# Altium schematic symbol library HK_SCHLIB.SchLib: 347 symbols (part 3 of 8)
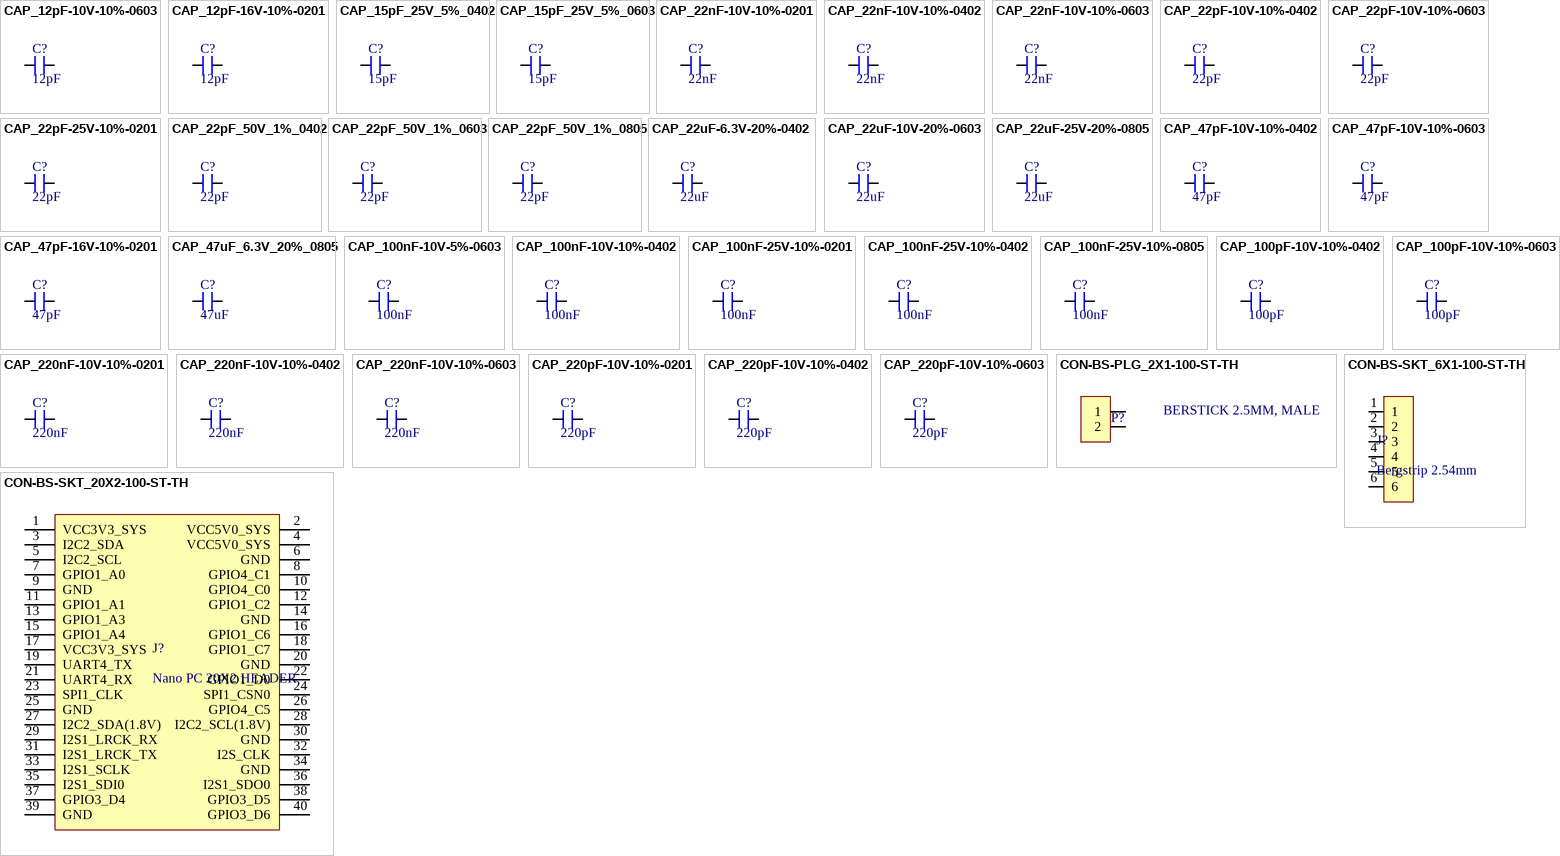
[diagram p17: symbols CAP_12pF-10V-10%-0603 to CON-BS-SKT_20X2-100-ST-TH]

## CAP_22nF-10V-10%-0201
designator C?, comment 22nF
0201 22000 pF 10 V ±10% Tolerance Multilayer Ceramic Chip Capacitor; Manufacturer: Yageo; Manufacturer Part Number: CC0201KRX5R6BB223; Case/Package: 0201; Supplier-1: Digikey; Supplier 1: Digi-Key; Manufacturer 1: Yageo; Manufacturer Part Number 1: CC0201KRX5R6BB223; RoHS: Yes; Category: Ceramic Capacitors; Stock 1: 313293; Pricing 1: 1=0.1, 10=0.022, 50=0.0122, 100=0.0099, 500=0.00708, 1000=0.00556, 2500=0.00505, 5000=0.00465 (USD); ComponentLink1URL: https://datasheet.octopart.com/CC0201KRX5R6BB223-Yageo-datasheet-140260304.pdf?src-supplier=Newark; ComponentLink1Description: https://datasheet.octopart.com/CC0201KRX5R6BB223-Yageo-datasheet-140260304.pdf?src-supplier=Newark; ComponentLink2URL: https://www.yageo.com/upload/media/product/productsearch/datasheet/mlcc/UPY-GPHC_X5R_4V-to-50V_26.pdf?src-supplier=Digi-Key; ComponentLink2Description: https://www.yageo.com/upload/media/product/productsearch/datasheet/mlcc/UPY-GPHC_X5R_4V-to-50V_26.pdf?src-supplier=Digi-Key; ComponentLink3URL: http://www.yageo.com/exep/pages/download/literatures/ProductSelectionGuide%202014_Final_2.pdf?src-supplier=Digi-Key; ComponentLink3Description: http://www.yageo.com/exep/pages/download/literatures/ProductSelectionGuide%202014_Final_2.pdf?src-supplier=Digi-Key; ComponentLink4URL: https://datasheet.octopart.com/CC0201KRX5R6BB223-Yageo-datasheet-137875056.pdf?src-supplier=Future+Electronics; ComponentLink4Description: https://datasheet.octopart.com/CC0201KRX5R6BB223-Yageo-datasheet-137875056.pdf?src-supplier=Future+Electronics; Supplier Part Number 1: 311-3687-1-ND
footprint CAP_0201
pins: 1, 2

## CAP_22nF-10V-10%-0402
designator C?, comment 22nF
Multilayer Ceramic Capacitor, 0.022 uF, 10 V, ± 10%, X7R, 0402 [1005 Metric]; Manufacturer: Samsung Electro-Mechanics; Manufacturer Part Number: CL05B223KP5NNNC; Manufacturer 1: Samsung; Voltage Rating: 10V; Case/Package: 0402; Supplier-1: Digikey; Supplier 1: Digi-Key; Manufacturer Part Number 1: CL05B223KP5NNNC; RoHS: Yes; Category: Ceramic Capacitors; Stock 1: 770000; Pricing 1: 1=0.1, 10=0.015, 50=0.0082, 100=0.0067, 500=0.00478, 1000=0.00375, 2500=0.00341, 5000=0.00314 (USD); Mount: Surface Mount; Case Code (Metric): 1005; Case Code (Imperial): 0402; Min Operating Temperature: -55°C; Max Operating Temperature: 125°C; Package Quantity: 1; Packaging: Tape and Reel; Capacitance: 22nF; Tolerance: 10%; Dielectric: X7R; Voltage Rating (DC): 10V; Series: CL; Construction: Flat; Length: 0.039inch; Width: 0.02inch; Height: 0.5mm; Thickness: 0.022inch; Depth: 0.5mm; Radiation Hardening: No; RoHS Compliant: Yes; Lead Free: Lead Free; ComponentLink1URL: https://datasheet.ciiva.com/25743/cl05b223kp5nnnc-25743971.pdf?src-supplier=Digi-Key; ComponentLink1Description: https://datasheet.ciiva.com/25743/cl05b223kp5nnnc-25743971.pdf?src-supplier=Digi-Key; Supplier Part Number 1: 1276-1538-1-ND
footprint CAP_0402 (Capacitor)
pins: 1, 2

## CAP_22nF-10V-10%-0603
designator C?, comment 22nF
Multilayer Ceramic Capacitor 0.022uF 10V 10% 0603 Paper T/R; Manufacturer: Taiyo Yuden; Manufacturer Part Number: LMF107B7223KAHT; Case/Package: 0603; Supplier-1: Digikey; Supplier 1: Digi-Key; Manufacturer 1: Taiyo Yuden; Manufacturer Part Number 1: LMF107B7223KAHT; RoHS: Yes; Category: Ceramic Capacitors; Stock 1: 481; Pricing 1: 1=0.19, 10=0.132, 50=0.0748, 100=0.0619, 500=0.04344, 1000=0.03596 (USD); Supplier Part Number 1: 587-6550-1-ND
footprint CAP_0603 (Capacitor)
pins: 1, 2

## CAP_22pF-10V-10%-0402
designator C?, comment 22pF
Capacitor, Ceramic, 22pF, 10VDC, 10-% Tol, 10+% Tol, C0G-TC Code, -30, 30ppm-TC RoHS Compliant: Yes; Manufacturer: KEMET; Manufacturer Part Number: C0402C220K8GACTU; Tolerance: 10%; Voltage Rating: 10V; Dielectric: C0G; Dissipation Factor: 0.1%; Case/Package: 0402; Supplier-1: Digikey; Supplier 1: Mouser; Manufacturer 1: KEMET; Manufacturer Part Number 1: C0402C220K8GACTU; RoHS: Yes; Category: Ceramic Capacitors; Stock 1: 11467; Pricing 1: 1=0.31, 10=0.151, 50=0.151, 100=0.097, 1000=0.082, 10000=0.07 (USD); Mount: Surface Mount; Case Code (Imperial): 0402; Case Code (Metric): 1005; Dielectric Material: Ceramic; Min Operating Temperature: -55°C; Max Operating Temperature: 125°C; Capacitance: 22pF; Package Quantity: 10000; Voltage Rating (DC): 10V; Packaging: Tape and Reel; Termination: SMD/SMT; Series: SMD Comm C0G; Length: 1mm; Width: 0.5mm; Height: 0.5mm; Lead Pitch: 0.3mm; Depth: 0.5mm; Radiation Hardening: No; Lead Free: Lead Free; RoHS Compliant: Yes; ComponentLink1URL: https://datasheet.ciiva.com/5435/kem-c1003-c0g-smd-356956-5435110.pdf?src-supplier=Mouser; ComponentLink1Description: https://datasheet.ciiva.com/5435/kem-c1003-c0g-smd-356956-5435110.pdf?src-supplier=Mouser; ComponentLink2URL: https://datasheet.ciiva.com/18192/getdatasheetpartid-644741-18192460.pdf?src-supplier=Verical; ComponentLink2Description: https://datasheet.ciiva.com/18192/getdatasheetpartid-644741-18192460.pdf?src-supplier=Verical; Supplier Part Number 1: 80-C0402C220K8G
footprint CAP_0402 (Capacitor)
pins: 1, 2

## CAP_22pF-10V-10%-0603
designator C?, comment 22pF
22pF ±10% 10V Ceramic Capacitor X8R 0603 (1608 Metric) /; Manufacturer: KEMET; Manufacturer Part Number: C0603X220K8HAC7867; Case/Package: 0603; Supplier-1: Digikey; Supplier 1: Digi-Key; Manufacturer 1: KEMET; Manufacturer Part Number 1: C0603X220K8HAC7867; RoHS: No; Category: Ceramic Capacitors; Pricing 1: 24000=0.00894 (USD); Supplier Part Number 1: C0603X220K8HAC7867-ND
footprint CAP_0603 (Capacitor)
pins: 1, 2

## CAP_22pF-25V-10%-0201
designator C?, comment 22pF
Cap Ceramic 22pF 25V C0G 10% SMD 0201 125C Paper T/R; Manufacturer: Johanson Technology Inc.; Manufacturer Part Number: 250R05L220KV4T; Manufacturer 1: Johanson; Case/Package: 0201; Supplier-1: Digikey; Supplier 1: Mouser; Manufacturer Part Number 1: 250R05L220KV4T; RoHS: Yes; Category: Ceramic Capacitors; Pricing 1: 1=0.11, 10=0.081, 50=0.081, 100=0.037, 1000=0.021, 10000=0.015 (USD); Mount: Surface Mount; Case Code (Imperial): 0201; Case Code (Metric): 0603; Weight: 6E-06oz; Min Operating Temperature: -55°C; Max Operating Temperature: 125°C; Voltage Rating: 25V; Capacitance: 22pF; Voltage Rating (DC): 25V; Tolerance: 10%; Packaging: Tape and Reel; Package Quantity: 15000; Dielectric: C0G; Termination: SMD/SMT; Series: L; Length: 0.6mm; Width: 0.3mm; Height: 0.3mm; Depth: 0.3mm; RoHS Compliant: Yes; ComponentLink1URL: http://www.mouser.com/ds/2/611/JTI-CAT-MLCC-HighQ-516212.pdf?src-supplier=Mouser; ComponentLink1Description: http://www.mouser.com/ds/2/611/JTI-CAT-MLCC-HighQ-516212.pdf?src-supplier=Mouser; ComponentLink2URL: https://www.johansontechnology.com/downloads/JTI-CAT-MLCC-HighQ.pdf?src-supplier=Digi-Key; ComponentLink2Description: https://www.johansontechnology.com/downloads/JTI-CAT-MLCC-HighQ.pdf?src-supplier=Digi-Key; ComponentLink3URL: http://components.arrow.com/part/dataview/43745096S9156427N2069?src-supplier=Arrow+Electronics; ComponentLink3Description: http://components.arrow.com/part/dataview/43745096S9156427N2069?src-supplier=Arrow+Electronics; Supplier Part Number 1: 609-250R05L220KV4T
footprint CAP_0201
pins: 1, 2

## CAP_22pF_50V_1%_0402
designator C?, comment 22pF
Ceramic Multilayer Mlcc Capacitors- SMD; Manufacturer: KEMET; Manufacturer Part Number: C0402C220F5HACAUTO; Tolerance: 1%; Voltage Rating: 50V; Supplier 1: Mouser; RoHS: Yes; Category: Ceramic Capacitors; Stock 1: 14866; Pricing 1: 1=0.19, 10=0.079, 50=0.079, 100=0.046, 1000=0.041, 10000=0.031 (USD); Mount: Surface Mount; Case/Package: 0402; Min Operating Temperature: -55°C; Max Operating Temperature: 150°C; Features: High Temperature; Series: SMD Auto X8R HT150C; Packaging: Tape and Reel; Capacitance: 22pF; Ratings: AEC-Q200; RoHS Compliant: Yes; Supplier 2: Digi-Key; Manufacturer 2: KEMET; Manufacturer Part Number 2: C0402C220F5HACAUTO; Stock 2: 47705; Pricing 2: 1=0.18, 10=0.125, 50=0.0748, 100=0.0631, 500=0.04318, 1000=0.0382, 2500=0.03654, 5000=0.03322 (USD); Supplier Part Number 2: 399-C0402C220F5HACAUTOCT-ND
footprint CAP_0402
pins: 1, 2

## CAP_22pF_50V_1%_0603
designator C?, comment 22pF
Cap, AEC-Q200, 22PF, 50V, Mlcc, 0603;; Manufacturer: KEMET; Manufacturer Part Number: C0603C220F5GACAUTO; Tolerance: 1%; Dielectric: C0G; Supplier 1: Mouser; RoHS: Yes; Category: Ceramic Capacitors; Stock 1: 6441; Pricing 1: 1=0.36, 10=0.245, 50=0.245, 100=0.147, 1000=0.093, 10000=0.075 (USD); Case/Package: 0603; Min Operating Temperature: -55°C; Max Operating Temperature: 125°C; Capacitance: 22pF; Packaging: Bulk; Length: 1.6mm; Depth: 0.8mm; RoHS Compliant: Yes; Supplier 2: Mouser; Manufacturer 2: KEMET; Manufacturer Part Number 2: C0603C220F5GACAUTO; Stock 2: 6441; Pricing 2: 1=0.36, 10=0.245, 50=0.245, 100=0.147, 1000=0.093, 10000=0.075 (USD); Supplier Part Number 2: 80-C0603C220F5GAUTO
footprint CAP_0603 (Chip Capacitor 0603, 2-Leads, Body 1.68x0.88mm, IPC Medium Density)
pins: 1, 2

## CAP_22pF_50V_1%_0805
designator C?, comment 22pF
Multilayer Ceramic Capacitor, 22 pF, 50 V, ± 1%, C0G (NP0), 0805 [2012 Metric]; Manufacturer: KEMET; Manufacturer Part Number: C0805C220F5GACTU; Supplier 1: Mouser; RoHS: Yes; Category: Ceramic Capacitors; Stock 1: 8817; Pricing 1: 1=0.79, 10=0.495, 50=0.495, 100=0.409, 1000=0.278, 10000=0.24 (USD); ComponentLink1URL: https://datasheet.ciiva.com/11650/kem-c1003-c0g-smd-11650462.pdf?src-supplier=Avnet; ComponentLink1Description: https://datasheet.ciiva.com/11650/kem-c1003-c0g-smd-11650462.pdf?src-supplier=Avnet; Supplier 2: Mouser; Manufacturer 2: KEMET; Manufacturer Part Number 2: C0805C220F5GACTU; Stock 2: 7310; Pricing 2: 1=0.79, 10=0.495, 50=0.495, 100=0.409, 1000=0.278, 10000=0.24 (USD); Supplier Part Number 2: 80-C0805C220F5G
footprint CAP_0805 (Chip Capacitor, 2-Leads, Body 2.10x1.35mm, IPC Medium Density)
pins: 1, 2

## CAP_22uF-6.3V-20%-0402
designator C?, comment 22uF
Multilayer Ceramic Capacitor, 22 uF, 6.3 V, ± 20%, X5R, 0402 [1005 Metric]; Manufacturer: Murata Electronics; Manufacturer Part Number: CL05A226MQ5N6J8; Manufacturer 1: Samsung; Voltage Rating: 6.3V; Case/Package: 0402; Supplier-1: Digikey; Supplier 1: Digi-Key; Manufacturer Part Number 1: CL05A226MQ5N6J8; RoHS: Yes; Category: Ceramic Capacitors; Stock 1: 115539; Pricing 1: 1=0.49, 10=0.342, 50=0.2394, 100=0.2053, 500=0.15394, 1000=0.12999, 2500=0.12315 (USD); Mount: Surface Mount; Case Code (Imperial): 0402; Case Code (Metric): 1005; Min Operating Temperature: -55°C; Max Operating Temperature: 85°C; Packaging: Cut Tape; Capacitance: 22uF; Tolerance: 20%; Series: CL; RoHS Compliant: Yes; ComponentLink1URL: https://datasheet.octopart.com/CL05A226MQ5N6J8-Samsung-Electro-Mechanics-datasheet-149154065.pdf?src-supplier=Future+Electronics; ComponentLink1Description: https://datasheet.octopart.com/CL05A226MQ5N6J8-Samsung-Electro-Mechanics-datasheet-149154065.pdf?src-supplier=Future+Electronics; ComponentLink2URL: http://www.samsungsem.com/kr/support/library/product-catalog/mlcc.jsp?src-supplier=Digi-Key; ComponentLink2Description: http://www.samsungsem.com/kr/support/library/product-catalog/mlcc.jsp?src-supplier=Digi-Key; Supplier Part Number 1: 1276-7090-1-ND
footprint CAP_0402 (Capacitor)
pins: 1, 2

## CAP_22uF-10V-20%-0603
designator C?, comment 22uF
Multilayer Ceramic Capacitor, 22 uF, 10 V, ± 20%, X5R, 0603 [1608 Metric]; Manufacturer: Murata Electronics; Manufacturer Part Number: GRM188R61A226ME15D; Manufacturer 1: Murata; Voltage Rating: 10V; Case/Package: 0603; Supplier-1: Digikey; Supplier 1: Digi-Key; Manufacturer Part Number 1: GRM188R61A226ME15D; RoHS: Yes; Category: Ceramic Capacitors; Stock 1: 745970; Pricing 1: 1=0.2, 10=0.133, 50=0.0798, 100=0.0674, 500=0.04614, 1000=0.04081 (USD); Mount: Surface Mount; Case Code (Metric): 1608; Case Code (Imperial): 0603; Material: Ceramic; Weight: 0.000222oz; Min Operating Temperature: -55°C; Max Operating Temperature: 85°C; Capacitance: 22uF; Tolerance: 20%; Packaging: Cut Tape; Dielectric: X5R; Termination: SMD/SMT; Voltage Rating (DC): 10V; Package Quantity: 4000; Series: GRM; Length: 1.6mm; Width: 0.8mm; Height: 0.8mm; Thickness: 0.039inch; Reach SVHC Compliant: No; Lead Free: Lead Free; RoHS Compliant: Yes; ComponentLink1URL: https://datasheet.ciiva.com/46444/1769893-46444975.pdf?src-supplier=Element14; ComponentLink1Description: https://datasheet.ciiva.com/46444/1769893-46444975.pdf?src-supplier=Element14; Supplier Part Number 1: 490-10476-1-ND
footprint CAP_0603 (Capacitor)
pins: 1, 2

## CAP_22uF-25V-20%-0805
designator C?, comment 22uF
0805 25 V 22 uF ±20% Tolerance X5R Monolithic Ceramic Chip Capacitor; Manufacturer: Murata Electronics; Manufacturer Part Number: GRM21BR61E226ME44K; Manufacturer 1: Murata; Voltage Rating: 25V; Case/Package: 0805; Supplier-1: Digikey; Supplier 1: Digi-Key; Manufacturer Part Number 1: GRM21BR61E226ME44K; RoHS: Yes; Category: Ceramic Capacitors; Stock 1: 809289; Pricing 1: 1=0.3, 10=0.205, 50=0.1436, 100=0.1231, 500=0.09234, 1000=0.07798, 2500=0.07387, 5000=0.06977 (USD); Mount: Surface Mount; Case Code (Imperial): 0805; Case Code (Metric): 2012; Weight: 0.000335oz; Min Operating Temperature: -55°C; Max Operating Temperature: 85°C; Packaging: Tape and Reel; Capacitance: 22uF; Tolerance: 20%; Dielectric: X5R; Termination: SMD/SMT; Voltage Rating (DC): 25V; Package Quantity: 10000; Series: GRM; Length: 0.079inch; Width: 1.25mm; Height: 1.25mm; Thickness: 0.057inch; RoHS Compliant: Yes; ComponentLink1URL: http://www.mouser.com/ds/2/281/c02e-2905.pdf?src-supplier=Mouser; ComponentLink1Description: http://www.mouser.com/ds/2/281/c02e-2905.pdf?src-supplier=Mouser; ComponentLink2URL: http://search.murata.co.jp/Ceramy/image/img/A01X/G101/ENG/GRM21BR61E226ME44-01.pdf?src-supplier=Digi-Key; ComponentLink2Description: http://search.murata.co.jp/Ceramy/image/img/A01X/G101/ENG/GRM21BR61E226ME44-01.pdf?src-supplier=Digi-Key; ComponentLink3URL: https://search.murata.co.jp/Ceramy/image/img/A01X/G101/ENG/GRM21BR61E226ME44-01.pdf?src-supplier=Digi-Key; ComponentLink3Description: https://search.murata.co.jp/Ceramy/image/img/A01X/G101/ENG/GRM21BR61E226ME44-01.pdf?src-supplier=Digi-Key; Supplier Part Number 1: 490-14661-1-ND
footprint CAP_0805 (Ceramic Capacitor)
pins: 1, 2

## CAP_47pF-10V-10%-0402
designator C?, comment 47pF
Cap Ceramic 47pF 10V C0G 10% SMD 0402 125°C Paper T/R; Manufacturer: KEMET; Manufacturer Part Number: C0402C470K8GAC7867; Case/Package: 0402; Supplier-1: Supplier-1; Supplier 1: Digi-Key; Manufacturer 1: KEMET; Manufacturer Part Number 1: C0402C470K8GAC7867; RoHS: Yes; Category: Ceramic Capacitors; Stock 1: 14294; Pricing 1: 1=0.29, 10=0.204, 50=0.1428, 100=0.1224, 500=0.0918, 1000=0.07752, 2500=0.07344, 5000=0.06936 (USD); ComponentLink1URL: http://capacitoredge.kemet.com/capedge2/DataSheet?pn=C0402C470K8GACTU&src-supplier=Avnet; ComponentLink1Description: http://capacitoredge.kemet.com/capedge2/DataSheet?pn=C0402C470K8GACTU&src-supplier=Avnet; ComponentLink2URL: https://api.kemet.com/component-edge/download/datasheet/C0402C470K8GACTU.pdf?src-supplier=Digi-Key; ComponentLink2Description: https://api.kemet.com/component-edge/download/datasheet/C0402C470K8GACTU.pdf?src-supplier=Digi-Key; ComponentLink3URL: http://capacitoredge.kemet.com/capedge2/DataSheet?pn=C0402C470K8GACTU; ComponentLink3Description: http://capacitoredge.kemet.com/capedge2/DataSheet?pn=C0402C470K8GACTU; Supplier Part Number 1: 399-14455-1-ND
footprint CAP_0402 (Capacitor)
pins: 1, 2

## CAP_47pF-10V-10%-0603
designator C?, comment 47pF
47pF ±10% 10V Ceramic Capacitor X8R 0603 (1608 Metric) /; Manufacturer: KEMET; Manufacturer Part Number: C0603X470K8HAC7867; Case/Package: 0603; Supplier-1: Supplier-1; Supplier 1: Digi-Key; Manufacturer 1: KEMET; Manufacturer Part Number 1: C0603X470K8HAC7867; RoHS: No; Category: Ceramic Capacitors; Pricing 1: 20000=0.0096 (USD); Supplier Part Number 1: C0603X470K8HAC7867-ND
footprint CAP_0603 (Capacitor)
pins: 1, 2

## CAP_47pF-16V-10%-0201
designator C?, comment 47pF
Capacitor SMD Ceramic 0201 Case 16Vdc X5R Dielectric 47pF ±10% ø7T/R"; Manufacturer: AVX Corporation; Manufacturer Part Number: 0201YD470KAT2A; Manufacturer 1: Kyocera AVX; Voltage Rating: 16V; Case/Package: 0201; Supplier-1: Supplier-1; Supplier 1: Digi-Key; Manufacturer Part Number 1: 0201YD470KAT2A; RoHS: Yes; Category: Ceramic Capacitors; Pricing 1: 15000=0.0744 (USD); Mount: Surface Mount; Min Operating Temperature: -55°C; Max Operating Temperature: 85°C; Packaging: Tape and Reel; Package Quantity: 15000; Capacitance: 47pF; Tolerance: 10%; Voltage Rating (DC): 16V; Series: -; Length: 0.024inch; Width: 0.012inch; Thickness: 0.013inch; ComponentLink1URL: https://datasheet.ciiva.com/13196/cx5r-13196313.pdf?src-supplier=Mouser; ComponentLink1Description: https://datasheet.ciiva.com/13196/cx5r-13196313.pdf?src-supplier=Mouser; ComponentLink2URL: https://datasheet.ciiva.com/6269/cx5r-6269455.pdf?src-supplier=Digi-Key; ComponentLink2Description: https://datasheet.ciiva.com/6269/cx5r-6269455.pdf?src-supplier=Digi-Key; Supplier Part Number 1: 0201YD470KAT2A-ND
footprint CAP_0201
pins: 1, 2

## CAP_47uF_6.3V_20%_0805
designator C?, comment 47uF
Multilayer Ceramic Capacitor, 47 uF, 6.3 V, ± 20%, X5R, 0805 [2012 Metric]; Manufacturer: KEMET; Manufacturer Part Number: C0805C476M9PACTU; Voltage Rating (DC): 6.3V; Dissipation Factor: 5%; Supplier 1: Mouser; RoHS: Yes; Category: Ceramic Capacitors; Stock 1: 131301; Pricing 1: 1=0.91, 10=0.671, 50=0.671, 100=0.46, 1000=0.335, 10000=0.254 (USD); Mount: PCB,Surface Mount; Case/Package: 0805; Number of Pins: 2; Case Code (Imperial): 0805; Case Code (Metric): 2012; Min Operating Temperature: -55°C; Max Operating Temperature: 85°C; Capacitance: 47uF; Tolerance: 20%; Packaging: Tape and Reel; Dielectric: X5R; Package Quantity: 3000; Voltage Rating: 6.3V; Termination: SMD/SMT; Series: C0805C; Construction: Flat; Length: 2mm; Width: 1.2mm; Height: 1.25mm; Depth: 1.25mm; Radiation Hardening: No; Reach SVHC Compliant: No; RoHS Compliant: Yes; ComponentLink1URL: https://datasheet.ciiva.com/6137/40889-6137142.pdf?src-supplier=Farnell; ComponentLink1Description: https://datasheet.ciiva.com/6137/40889-6137142.pdf?src-supplier=Farnell; ComponentLink2URL: https://datasheet.ciiva.com/7842/40889-7842618.pdf?src-supplier=Element14; ComponentLink2Description: https://datasheet.ciiva.com/7842/40889-7842618.pdf?src-supplier=Element14; Supplier 2: Mouser; Manufacturer 2: KEMET; Manufacturer Part Number 2: C0805C476M9PACTU; Stock 2: 230971; Pricing 2: 1=0.91, 10=0.671, 50=0.671, 100=0.46, 1000=0.335, 10000=0.254 (USD); Supplier Part Number 2: 80-C0805C476M9P
footprint CAP_0805 (Chip Capacitor, 2-Leads, Body 2.10x1.35mm, IPC Medium Density)
pins: 1, 2

## CAP_100nF-10V-5%-0603
designator C?, comment 100nF
Multilayer Ceramic Capacitor, 0.1 uF, 10 V, ± 10%, X7R, 0603 [1608 Metric]; Manufacturer: Yageo; Manufacturer Part Number: CC0603KRX7R6BB104; Case/Package: 0603; Supplier-1: Digikey; Supplier 1: Digi-Key; Manufacturer 1: Yageo; Manufacturer Part Number 1: CC0603KRX7R6BB104; RoHS: Yes; Category: Ceramic Capacitors; Stock 1: 219964; Pricing 1: 1=0.1, 10=0.07, 50=0.0398, 100=0.033, 500=0.02316, 1000=0.01918 (USD); ComponentLink1URL: https://datasheet.ciiva.com/11586/upy-gphc-x7r-6-3v-to-50v-8-11586327.pdf?src-supplier=Avnet; ComponentLink1Description: https://datasheet.ciiva.com/11586/upy-gphc-x7r-6-3v-to-50v-8-11586327.pdf?src-supplier=Avnet; Supplier Part Number 1: 311-4055-1-ND
footprint CAP_0603 (Capacitor)
pins: 1, 2

## CAP_100nF-10V-10%-0402
designator C?, comment 100nF
Multilayer Ceramic Capacitor, 0.1 uF, 25 V, ± 10%, X7R, 0402 [1005 Metric]; Manufacturer: Yageo; Manufacturer Part Number: CC0402KRX7R6BB104; Voltage Rating: 10V; Case/Package: 0402; Supplier-1: Digikey; Supplier 1: Digi-Key; Manufacturer 1: Yageo; Manufacturer Part Number 1: CC0402KRX7R6BB104; RoHS: Yes; Category: Ceramic Capacitors; Stock 1: 564425; Pricing 1: 1=0.1, 10=0.024, 50=0.013, 100=0.0106, 500=0.0076, 1000=0.00597, 2500=0.00543, 5000=0.00499 (USD); Mount: Surface Mount; Number of Pins: 2; Case Code (Imperial): 0402; Case Code (Metric): 1005; Min Operating Temperature: -55°C; Max Operating Temperature: 125°C; Capacitance: 100nF; Tolerance: 10%; Packaging: Tape and Reel; Dielectric: X7R; Termination: SMD/SMT; Package Quantity: 1; Voltage Rating (DC): 10V; Voltage: 10V; Series: CC; Construction: Flat; Length: 1mm; Width: 0.02inch; Height: 0.5mm; Depth: 0.5mm; Thickness: 0.022inch; Radiation Hardening: No; RoHS Compliant: Yes; Lead Free: Lead Free; Halogen Free: Halogen Free; Reach SVHC Compliant: Unknown; ComponentLink1URL: https://datasheet.ciiva.com/144/mlccorderingcode-144363.pdf?src-supplier=Digi-Key; ComponentLink1Description: https://datasheet.ciiva.com/144/mlccorderingcode-144363.pdf?src-supplier=Digi-Key; ComponentLink2URL: https://datasheet.ciiva.com/144/mlccorderingcode-144365.pdf?src-supplier=Digi-Key; ComponentLink2Description: https://datasheet.ciiva.com/144/mlccorderingcode-144365.pdf?src-supplier=Digi-Key; ComponentLink3URL: https://datasheet.ciiva.com/11786/0900766b80d84f1d-11786159.pdf?src-supplier=Rs; ComponentLink3Description: https://datasheet.ciiva.com/11786/0900766b80d84f1d-11786159.pdf?src-supplier=Rs; ComponentLink4URL: https://datasheet.ciiva.com/144/mlccorderingcode-144364.pdf?src-supplier=Digi-Key; ComponentLink4Description: https://datasheet.ciiva.com/144/mlccorderingcode-144364.pdf?src-supplier=Digi-Key; ComponentLink5URL: https://datasheet.ciiva.com/26862/getdatasheetpartid-317655-26862631.pdf?src-supplier=Verical; ComponentLink5Description: https://datasheet.ciiva.com/26862/getdatasheetpartid-317655-26862631.pdf?src-supplier=Verical; ComponentLink6URL: https://datasheet.ciiva.com/5426/upy-gphc-x7r-6-3v-to-50v-8-5426469.pdf?src-supplier=Mouser; ComponentLink6Description: https://datasheet.ciiva.com/5426/upy-gphc-x7r-6-3v-to-50v-8-5426469.pdf?src-supplier=Mouser; ComponentLink7URL: https://datasheet.ciiva.com/28450/1489800-28450311.pdf?src-supplier=Element14; ComponentLink7Description: https://datasheet.ciiva.com/28450/1489800-28450311.pdf?src-supplier=Element14; Supplier Part Number 1: 311-1345-1-ND
footprint CAP_0402 (Capacitor)
pins: 1, 2

## CAP_100nF-25V-10%-0201
designator C?, comment 100nF
Multilayer Ceramic Capacitor, 0.1 uF, 25 V, ± 10%, X5R, 0201 [0603 Metric]; Manufacturer: TDK Corporation; Manufacturer Part Number: C0603X5R1E104K030BB; Manufacturer 1: TDK; Voltage Rating: 25V; Case/Package: 0201; Supplier-1: Digikey; Supplier 1: Digi-Key; Manufacturer Part Number 1: C0603X5R1E104K030BB; RoHS: Yes; Category: Ceramic Capacitors; Stock 1: 525939; Pricing 1: 1=0.1, 10=0.069, 50=0.0376, 100=0.0307, 500=0.02192, 1000=0.01722, 2500=0.01566, 5000=0.0144 (USD); Mount: Surface Mount; Case Code (Metric): 0603; Case Code (Imperial): 0201; Weight: 6E-06oz; Dielectric Material: Ceramic; Min Operating Temperature: -55°C; Max Operating Temperature: 85°C; Package Quantity: 15000; Packaging: Tape and Reel; Capacitance: 100nF; Tolerance: 10%; Dielectric: X5R; Termination: SMD/SMT; Voltage Rating (DC): 25V; Series: C; Length: 0.6mm; Width: 0.3mm; Height: 0.3mm; Depth: 0.3mm; Reach SVHC Compliant: No; Lead Free: Lead Free; RoHS Compliant: Yes; ComponentLink1URL: https://datasheet.ciiva.com/14915/tdkmlcccaprange-14915358.pdf?src-supplier=Digi-Key; ComponentLink1Description: https://datasheet.ciiva.com/14915/tdkmlcccaprange-14915358.pdf?src-supplier=Digi-Key; Supplier Part Number 1: 445-13671-1-ND
footprint CAP_0201
pins: 1, 2

## CAP_100nF-25V-10%-0402
designator C?, comment 100nF
Multilayer Ceramic Capacitor, 0.1 F, 10%, X7R, 25 V, 0402 [1005 Metric] RoHS Compliant: Yes; Manufacturer: Walsin Technology Corporation; Manufacturer Part Number: 0402B104K250CT; Manufacturer 1: Walsin Technologies; Case/Package: 0402; Supplier-1: Digikey; Supplier 1: Digi-Key; Manufacturer Part Number 1: 0402B104K250CT; RoHS: Yes; Category: Ceramic Capacitors; Stock 1: 1195366; Pricing 1: 1=0.1, 10=0.053, 50=0.029, 100=0.0238, 500=0.01696, 1000=0.01333, 2500=0.01212, 5000=0.01115 (USD); ComponentLink1URL: http://www.farnell.com/datasheets/2340522.pdf?src-supplier=Farnell; ComponentLink1Description: http://www.farnell.com/datasheets/2340522.pdf?src-supplier=Farnell; ComponentLink2URL: http://www.farnell.com/datasheets/1958513.pdf?src-supplier=Farnell; ComponentLink2Description: http://www.farnell.com/datasheets/1958513.pdf?src-supplier=Farnell; ComponentLink3URL: https://datasheet.octopart.com/0402B104K250CT-Walsin-Technologies-datasheet-85392065.pdf?src-supplier=Element14; ComponentLink3Description: https://datasheet.octopart.com/0402B104K250CT-Walsin-Technologies-datasheet-85392065.pdf?src-supplier=Element14; ComponentLink4URL: http://www.passivecomponent.com/wp-content/uploads/2018/10/MLCC.pdf?src-supplier=Digi-Key; ComponentLink4Description: http://www.passivecomponent.com/wp-content/uploads/2018/10/MLCC.pdf?src-supplier=Digi-Key; ComponentLink5URL: http://www.passivecomponent.com/indexsea/0402B104K250CT-TN.pdf?src-supplier=Digi-Key; ComponentLink5Description: http://www.passivecomponent.com/indexsea/0402B104K250CT-TN.pdf?src-supplier=Digi-Key; ComponentLink6URL: https://datasheet.octopart.com/0402B104K250CT-Walsin-Technologies-datasheet-62066062.pdf?src-supplier=TME; ComponentLink6Description: https://datasheet.octopart.com/0402B104K250CT-Walsin-Technologies-datasheet-62066062.pdf?src-supplier=TME; ComponentLink7URL: https://datasheet.octopart.com/0402B104K250CT-Walsin-Technologies-datasheet-136037192.pdf?src-supplier=TECHDesign; ComponentLink7Description: https://datasheet.octopart.com/0402B104K250CT-Walsin-Technologies-datasheet-136037192.pdf?src-supplier=TECHDesign; Supplier Part Number 1: 1292-1175-1-ND
footprint CAP_0402 (Capacitor)
pins: 1, 2

## CAP_100nF-25V-10%-0805
designator C?, comment 100nF
Multilayer Ceramic Capacitor, 0.1 uF, 25 V, ± 10%, X7R, 0805 [2012 Metric]; Manufacturer: Yageo; Manufacturer Part Number: CC0805KRX7R8BB104; Case/Package: 0805; Supplier-1: Digikey; Supplier 1: Digi-Key; Manufacturer 1: Yageo; Manufacturer Part Number 1: CC0805KRX7R8BB104; RoHS: Yes; Category: Ceramic Capacitors; Stock 1: 803232; Pricing 1: 1=0.11, 10=0.077, 50=0.0438, 100=0.0362, 500=0.02542, 1000=0.02104 (USD); ComponentLink1URL: https://datasheet.ciiva.com/8034/1784427-8034030.pdf?src-supplier=Element14; ComponentLink1Description: https://datasheet.ciiva.com/8034/1784427-8034030.pdf?src-supplier=Element14; ComponentLink2URL: https://datasheet.ciiva.com/28450/1489800-28450789.pdf?src-supplier=Element14; ComponentLink2Description: https://datasheet.ciiva.com/28450/1489800-28450789.pdf?src-supplier=Element14; ComponentLink3URL: https://datasheet.ciiva.com/8034/1784427-8034029.pdf?src-supplier=Element14; ComponentLink3Description: https://datasheet.ciiva.com/8034/1784427-8034029.pdf?src-supplier=Element14; ComponentLink4URL: https://datasheet.ciiva.com/8034/70765-8034031.pdf?src-supplier=Element14; ComponentLink4Description: https://datasheet.ciiva.com/8034/70765-8034031.pdf?src-supplier=Element14; ComponentLink5URL: https://datasheet.ciiva.com/46430/1850775-46430166.pdf?src-supplier=Element14; ComponentLink5Description: https://datasheet.ciiva.com/46430/1850775-46430166.pdf?src-supplier=Element14; ComponentLink6URL: https://datasheet.ciiva.com/15189/getdatasheetpartid-330244-15189223.pdf?src-supplier=Verical; ComponentLink6Description: https://datasheet.ciiva.com/15189/getdatasheetpartid-330244-15189223.pdf?src-supplier=Verical; ComponentLink7URL: https://datasheet.ciiva.com/145/mlccorderingcode-145007.pdf?src-supplier=Digi-Key; ComponentLink7Description: https://datasheet.ciiva.com/145/mlccorderingcode-145007.pdf?src-supplier=Digi-Key; ComponentLink8URL: https://datasheet.ciiva.com/145/mlccorderingcode-145008.pdf?src-supplier=Digi-Key; ComponentLink8Description: https://datasheet.ciiva.com/145/mlccorderingcode-145008.pdf?src-supplier=Digi-Key; ComponentLink9URL: https://datasheet.ciiva.com/145/mlccorderingcode-145009.pdf?src-supplier=Digi-Key; ComponentLink9Description: https://datasheet.ciiva.com/145/mlccorderingcode-145009.pdf?src-supplier=Digi-Key; Supplier Part Number 1: 311-1141-1-ND
footprint CAP_0805 (Ceramic Capacitor)
pins: 1, 2

## CAP_100pF-10V-10%-0402
designator C?, comment 100pF
Cap Ceramic 100pF 10V X7R 10% SMD 0402 125°C Paper T/R; Manufacturer: KEMET; Manufacturer Part Number: C0402C101K8RAC7867; Case/Package: 0402; Supplier-1: Digikey; Supplier 1: Digi-Key; Manufacturer 1: KEMET; Manufacturer Part Number 1: C0402C101K8RAC7867; RoHS: Yes; Category: Ceramic Capacitors; Stock 1: 764202; Pricing 1: 1=0.15, 10=0.11, 50=0.0624, 100=0.0518, 500=0.0363, 1000=0.03006, 2500=0.02798, 5000=0.02559 (USD); Mount: Surface Mount; Case Code (Imperial): 0402; Case Code (Metric): 1005; Min Operating Temperature: -55°C; Max Operating Temperature: 125°C; Packaging: Cut Tape; Capacitance: 100pF; Tolerance: 10%; Voltage Rating: 10V; Series: C; RoHS Compliant: Yes; ComponentLink1URL: https://search.kemet.com/component-edge/download/datasheet/C0402C101K8RAC7867.pdf?src-supplier=Digi-Key; ComponentLink1Description: https://search.kemet.com/component-edge/download/datasheet/C0402C101K8RAC7867.pdf?src-supplier=Digi-Key; ComponentLink2URL: https://api.kemet.com/component-edge/download/datasheet/C0402C101K8RAC7867.pdf?src-supplier=Digi-Key; ComponentLink2Description: https://api.kemet.com/component-edge/download/datasheet/C0402C101K8RAC7867.pdf?src-supplier=Digi-Key; Supplier Part Number 1: 399-14866-1-ND
footprint CAP_0402 (Capacitor)
pins: 1, 2

## CAP_100pF-10V-10%-0603
designator C?, comment 100pF
Cap Ceramic 100pF 10V X7R 10% Pad SMD 0603 125C T/R; Manufacturer: AVX Corporation; Manufacturer Part Number: 0603ZC101KAT2A; Manufacturer 1: Kyocera AVX; Case/Package: 0603; Supplier-1: Digikey; Supplier 1: Mouser; Manufacturer Part Number 1: 0603ZC101KAT2A; RoHS: Yes; Category: Ceramic Capacitors; Stock 1: 11762; Pricing 1: 1=0.19, 10=0.087, 50=0.087, 100=0.05, 1000=0.04, 10000=0.035 (USD); ComponentLink1URL: https://datasheet.ciiva.com/5417/cx7r-5417999.pdf?src-supplier=Mouser; ComponentLink1Description: https://datasheet.ciiva.com/5417/cx7r-5417999.pdf?src-supplier=Mouser; ComponentLink2URL: https://datasheet.ciiva.com/204/cx7r-204551.pdf?src-supplier=Digi-Key; ComponentLink2Description: https://datasheet.ciiva.com/204/cx7r-204551.pdf?src-supplier=Digi-Key; Supplier Part Number 1: 581-0603ZC101KAT2A
footprint CAP_0603 (Capacitor)
pins: 1, 2

## CAP_220nF-10V-10%-0201
designator C?, comment 220nF
Multilayer Ceramic Capacitor, 0.22 uF, 10 V, ± 10%, X5R, 0201 [0603 Metric]; Manufacturer: Samsung Electro-Mechanics; Manufacturer Part Number: CL03A224KP3NNNC; Manufacturer 1: Samsung; Case/Package: 0201; Supplier-1: Digikey; Supplier 1: Digi-Key; Manufacturer Part Number 1: CL03A224KP3NNNC; RoHS: Yes; Category: Ceramic Capacitors; Stock 1: 467305; Pricing 1: 1=0.11, 10=0.075, 50=0.0428, 100=0.0355, 500=0.02486, 1000=0.02058, 2500=0.01916, 5000=0.01752 (USD); ComponentLink1URL: https://datasheet.ciiva.com/25728/cl03a224kp3nnnc-25728952.pdf?src-supplier=Digi-Key; ComponentLink1Description: https://datasheet.ciiva.com/25728/cl03a224kp3nnnc-25728952.pdf?src-supplier=Digi-Key; ComponentLink2URL: https://datasheet.ciiva.com/26920/getdatasheetpartid-756454-26920164.pdf?src-supplier=Verical; ComponentLink2Description: https://datasheet.ciiva.com/26920/getdatasheetpartid-756454-26920164.pdf?src-supplier=Verical; Supplier Part Number 1: 1276-1331-1-ND
footprint CAP_0201
pins: 1, 2

## CAP_220nF-10V-10%-0402
designator C?, comment 220nF
Multilayer Ceramic Capacitor, 0.22 uF, 10 V, ± 10%, X7R, 0402 [1005 Metric]; Manufacturer: Samsung Electro-Mechanics; Manufacturer Part Number: CL05B224KP5NNNC; Manufacturer 1: Samsung; Case/Package: 0402; Supplier-1: Digikey; Supplier 1: Digi-Key; Manufacturer Part Number 1: CL05B224KP5NNNC; RoHS: Yes; Category: Ceramic Capacitors; Stock 1: 1830060; Pricing 1: 1=0.1, 10=0.037, 50=0.0204, 100=0.0166, 500=0.01188, 1000=0.00933, 2500=0.00848, 5000=0.00781 (USD); ComponentLink1URL: https://datasheet.ciiva.com/25733/cl05b224kp5nnnc-25733649.pdf?src-supplier=Digi-Key; ComponentLink1Description: https://datasheet.ciiva.com/25733/cl05b224kp5nnnc-25733649.pdf?src-supplier=Digi-Key; ComponentLink2URL: https://datasheet.ciiva.com/26838/getdatasheetpartid-455373-26838229.pdf?src-supplier=Verical; ComponentLink2Description: https://datasheet.ciiva.com/26838/getdatasheetpartid-455373-26838229.pdf?src-supplier=Verical; Supplier Part Number 1: 1276-1539-1-ND
footprint CAP_0402 (Capacitor)
pins: 1, 2

## CAP_220nF-10V-10%-0603
designator C?, comment 220nF
Cap Ceramic 0.22uF 10V X7R 10% SMD 0603 125C T/R; Manufacturer: Yageo; Manufacturer Part Number: CC0603KRX7R6BB224; Case/Package: 0603; Supplier-1: Digikey; Supplier 1: Digi-Key; Manufacturer 1: Yageo; Manufacturer Part Number 1: CC0603KRX7R6BB224; RoHS: Yes; Category: Ceramic Capacitors; Stock 1: 40426; Pricing 1: 1=0.1, 10=0.061, 50=0.0334, 100=0.0272, 500=0.01944, 1000=0.01528 (USD); ComponentLink1URL: https://datasheet.ciiva.com/11786/0900766b80ce67ed-11786433.pdf?src-supplier=Rs; ComponentLink1Description: https://datasheet.ciiva.com/11786/0900766b80ce67ed-11786433.pdf?src-supplier=Rs; ComponentLink2URL: https://datasheet.ciiva.com/15189/getdatasheetpartid-93657-15189159.pdf?src-supplier=Verical; ComponentLink2Description: https://datasheet.ciiva.com/15189/getdatasheetpartid-93657-15189159.pdf?src-supplier=Verical; ComponentLink3URL: https://datasheet.ciiva.com/144/mlccorderingcode-144664.pdf?src-supplier=Digi-Key; ComponentLink3Description: https://datasheet.ciiva.com/144/mlccorderingcode-144664.pdf?src-supplier=Digi-Key; ComponentLink4URL: https://datasheet.ciiva.com/144/mlccorderingcode-144665.pdf?src-supplier=Digi-Key; ComponentLink4Description: https://datasheet.ciiva.com/144/mlccorderingcode-144665.pdf?src-supplier=Digi-Key; ComponentLink5URL: https://datasheet.ciiva.com/144/mlccorderingcode-144666.pdf?src-supplier=Digi-Key; ComponentLink5Description: https://datasheet.ciiva.com/144/mlccorderingcode-144666.pdf?src-supplier=Digi-Key; ComponentLink6URL: https://datasheet.ciiva.com/11464/upy-gphc-x7r-6-3v-to-50v-8-11464734.pdf?src-supplier=Avnet; ComponentLink6Description: https://datasheet.ciiva.com/11464/upy-gphc-x7r-6-3v-to-50v-8-11464734.pdf?src-supplier=Avnet; ComponentLink7URL: https://datasheet.ciiva.com/8033/1489800-8033791.pdf?src-supplier=Element14; ComponentLink7Description: https://datasheet.ciiva.com/8033/1489800-8033791.pdf?src-supplier=Element14; ComponentLink8URL: https://datasheet.ciiva.com/7978/1489800-7978173.pdf?src-supplier=Element14; ComponentLink8Description: https://datasheet.ciiva.com/7978/1489800-7978173.pdf?src-supplier=Element14; Supplier Part Number 1: 311-1346-1-ND
footprint CAP_0603 (Capacitor)
pins: 1, 2

## CAP_220pF-10V-10%-0201
designator C?, comment 220pF
Cap Ceramic 220pF 10V X7R 10% SMD 0402 125°C Paper T/R; Manufacturer: KEMET; Manufacturer Part Number: C0402C221K8RAC7867; Case/Package: 0201; Supplier-1: Digikey; Supplier 1: Digi-Key; Manufacturer 1: KEMET; Manufacturer Part Number 1: C0402C221K8RAC7867; RoHS: Yes; Category: Ceramic Capacitors; Stock 1: 3931; Pricing 1: 1=0.32, 10=0.222, 50=0.1556, 100=0.1333, 500=0.1, 1000=0.08445, 2500=0.08001, 5000=0.07556 (USD); ComponentLink1URL: https://api.kemet.com/component-edge/download/datasheet/C0402C221K8RACTU.pdf?src-supplier=Digi-Key; ComponentLink1Description: https://api.kemet.com/component-edge/download/datasheet/C0402C221K8RACTU.pdf?src-supplier=Digi-Key; ComponentLink2URL: http://capacitoredge.kemet.com/capedge2/DataSheet?pn=C0402C221K8RAC7867; ComponentLink2Description: http://capacitoredge.kemet.com/capedge2/DataSheet?pn=C0402C221K8RAC7867; Supplier Part Number 1: 399-14432-1-ND
footprint CAP_0201
pins: 1, 2

## CAP_220pF-10V-10%-0402
designator C?, comment 220pF
Cap Ceramic 220pF 10V X7R 10% SMD 0402 125°C Paper T/R; Manufacturer: KEMET; Manufacturer Part Number: C0402C221K8RAC7867; Case/Package: 0402; Supplier-1: Digikey; Supplier 1: Digi-Key; Manufacturer 1: KEMET; Manufacturer Part Number 1: C0402C221K8RAC7867; RoHS: Yes; Category: Ceramic Capacitors; Stock 1: 3931; Pricing 1: 1=0.32, 10=0.222, 50=0.1556, 100=0.1333, 500=0.1, 1000=0.08445, 2500=0.08001, 5000=0.07556 (USD); ComponentLink1URL: https://api.kemet.com/component-edge/download/datasheet/C0402C221K8RACTU.pdf?src-supplier=Digi-Key; ComponentLink1Description: https://api.kemet.com/component-edge/download/datasheet/C0402C221K8RACTU.pdf?src-supplier=Digi-Key; ComponentLink2URL: http://capacitoredge.kemet.com/capedge2/DataSheet?pn=C0402C221K8RAC7867; ComponentLink2Description: http://capacitoredge.kemet.com/capedge2/DataSheet?pn=C0402C221K8RAC7867; Supplier Part Number 1: 399-14432-1-ND
footprint CAP_0402 (Capacitor)
pins: 1, 2

## CAP_220pF-10V-10%-0603
designator C?, comment 220pF
Cap Ceramic 220pF 10V X7R 10% SMD 0603 125°C Paper T/R; Manufacturer: KEMET; Manufacturer Part Number: C0603C221K8RAC7867; Case/Package: 0603; Supplier-1: Digikey; Supplier 1: Digi-Key; Manufacturer 1: KEMET; Manufacturer Part Number 1: C0603C221K8RAC7867; RoHS: Yes; Category: Ceramic Capacitors; Stock 1: 8819; Pricing 1: 1=0.27, 10=0.187, 50=0.1248, 100=0.1061, 500=0.07488, 1000=0.06552 (USD); Mount: Surface Mount; Dielectric Material: Ceramic; Min Operating Temperature: -55°C; Max Operating Temperature: 125°C; Capacitance: 220pF; Tolerance: 10%; Dielectric: X7R; Voltage Rating (DC): 10V; Series: SMD Comm X7R; Voltage Rating: 10V; Construction: Flat; Length: 1.6mm; Height: 0.8mm; Depth: 0.8mm; Radiation Hardening: No; RoHS Compliant: Yes; ComponentLink1URL: https://api.kemet.com/component-edge/download/datasheet/C0603C221K8RACTU.pdf?src-supplier=Digi-Key; ComponentLink1Description: https://api.kemet.com/component-edge/download/datasheet/C0603C221K8RACTU.pdf?src-supplier=Digi-Key; ComponentLink2URL: http://capacitoredge.kemet.com/capedge2/DataSheet?pn=C0603C221K8RACTU&src-supplier=Avnet; ComponentLink2Description: http://capacitoredge.kemet.com/capedge2/DataSheet?pn=C0603C221K8RACTU&src-supplier=Avnet; ComponentLink3URL: http://capacitoredge.kemet.com/capedge2/DataSheet?pn=C0603C221K8RACTU; ComponentLink3Description: http://capacitoredge.kemet.com/capedge2/DataSheet?pn=C0603C221K8RACTU; Supplier Part Number 1: 399-15379-1-ND
footprint CAP_0603 (Capacitor)
pins: 1, 2

## CON-BS-PLG_2X1-100-ST-TH
designator P?, comment BERSTICK 2.5MM, MALE
2 Pins, 1 Row 2.54mm Pitch, Straight bergstrip, Male; Manufacturer Part Number: NA; Manufacturer: Samtec; Case/Package: TH-CON; Supplier-1: SP ROAD
footprint CON2_100_43D62_TH_ST (Footprint not found)
pins: 1, 2

## CON-BS-SKT_6X1-100-ST-TH
designator J?, comment Bergstrip 2.54mm
6 Pins, 1 Row 2.54mm Pitch, Straight bergstrip, Female; Manufacturer: Molex; Manufacturer Part Number: 22-10-2061; Case/Package: TH-CON; Supplier-1: SP ROAD
footprint CON6_100_59D78_TH_ST (Bergstrip)
pins: 1, 2, 3, 4, 5, 6

## CON-BS-SKT_20X2-100-ST-TH
designator J?, comment Nano PC 20X2 HEADER
40 Pins, 2 Row 2.54mm Pitch, Straight bergstrip, Female (Stackup); Manufacturer Part Number: ADA2223; Manufacturer: FCI / Amphenol; Case/Package: TH-CON; Supplier-1: TANOTIS
footprint CON40_100_ADA2223_ST_TH
pins: 1 VCC3V3_SYS, 2 VCC5V0_SYS, 3 I2C2_SDA, 4 VCC5V0_SYS, 5 I2C2_SCL, 6 GND, 7 GPIO1_A0, 8 GPIO4_C1, 9 GND, 10 GPIO4_C0, 11 GPIO1_A1, 12 GPIO1_C2, 13 GPIO1_A3, 14 GND, 15 GPIO1_A4, 16 GPIO1_C6, 17 VCC3V3_SYS, 18 GPIO1_C7, 19 UART4_TX, 20 GND, 21 UART4_RX, 22 GPIO1_D0, 23 SPI1_CLK, 24 SPI1_CSN0, 25 GND, 26 GPIO4_C5, 27 I2C2_SDA(1.8V), 28 I2C2_SCL(1.8V), 29 I2S1_LRCK_RX, 30 GND, 31 I2S1_LRCK_TX, 32 I2S_CLK, 33 I2S1_SCLK, 34 GND, 35 I2S1_SDI0, 36 I2S1_SDO0, 37 GPIO3_D4, 38 GPIO3_D5, 39 GND, 40 GPIO3_D6

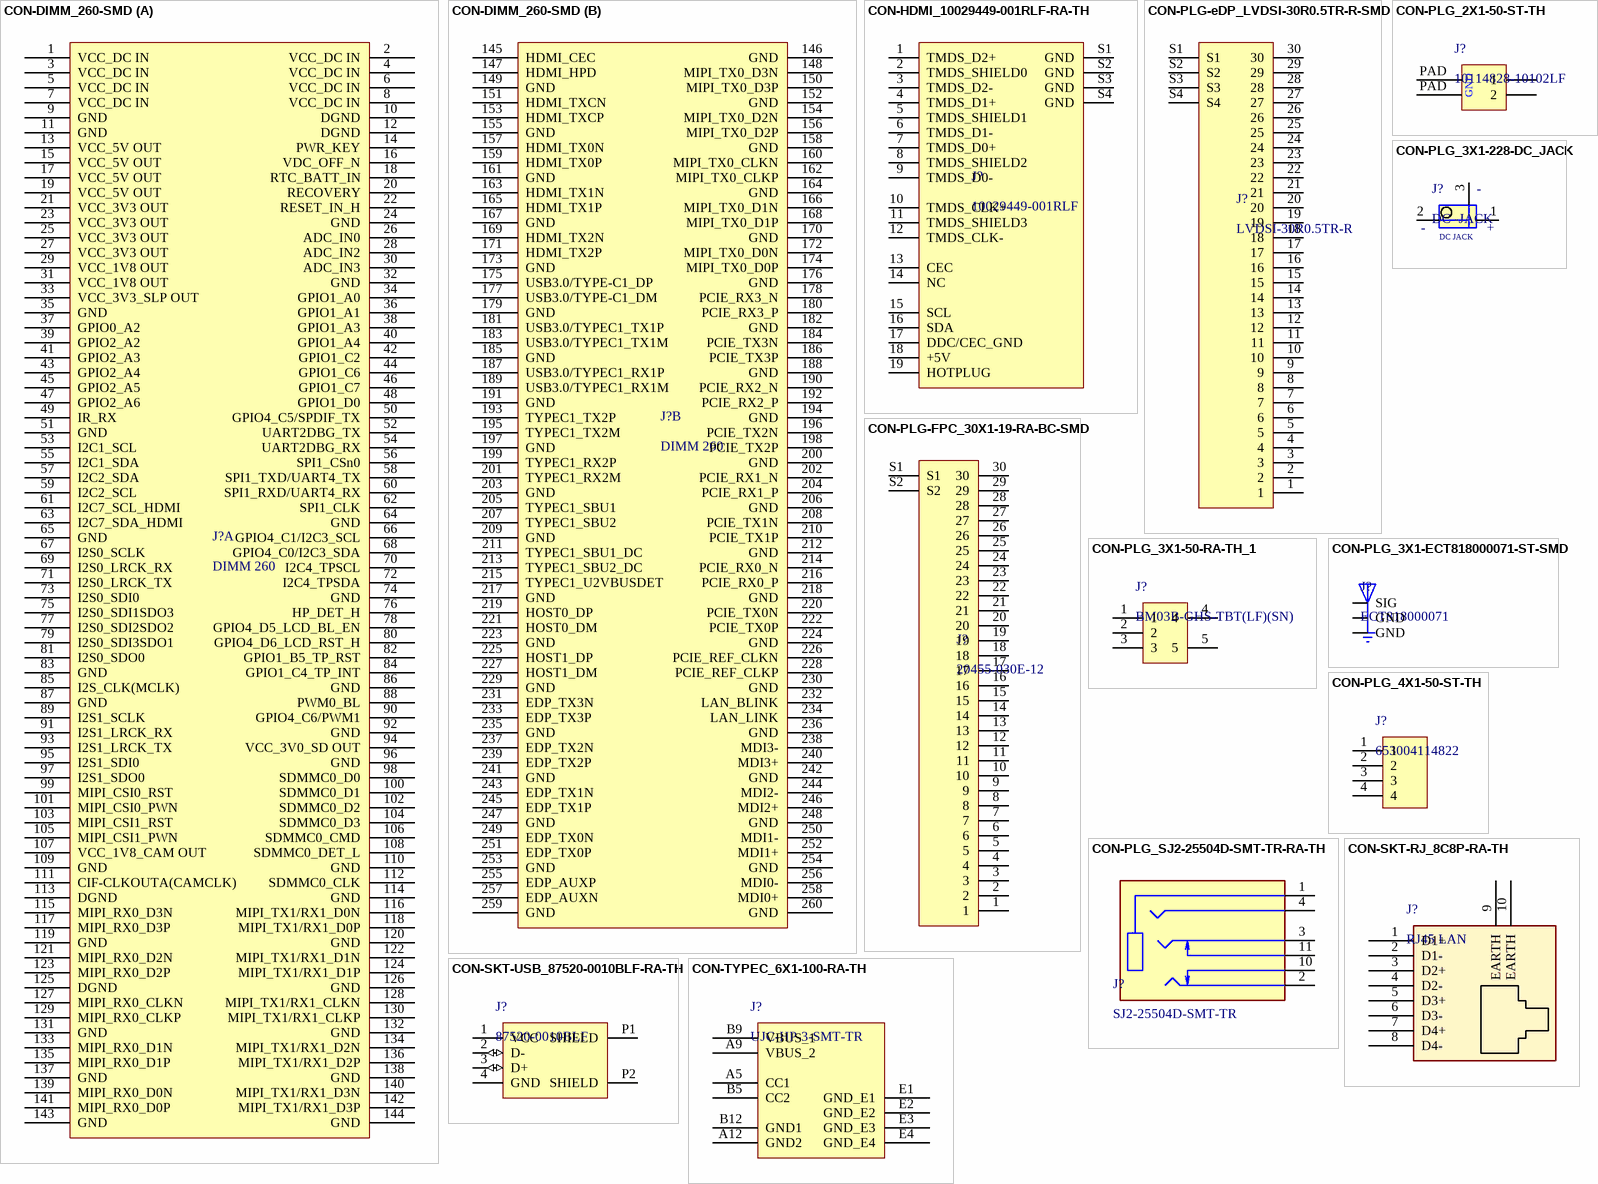
[diagram p2: symbols CON-DIMM_260-SMD to CON-TYPEC_6X1-100-RA-TH]

## CON-DIMM_260-SMD
designator J?, comment DIMM 260
Dimm 260 pin smd plating on pcb; Manufacturer: NA; Manufacturer Part Number: NA; Case/Package: NA; Supplier-1: NA
footprint DIMM260_DDR4 (Dimm Module)
part A pins: 1 VCC_DC IN, 2 VCC_DC IN, 3 VCC_DC IN, 4 VCC_DC IN, 5 VCC_DC IN, 6 VCC_DC IN, 7 VCC_DC IN, 8 VCC_DC IN, 9 GND, 10 DGND, 11 GND, 12 DGND, 13 VCC_5V OUT, 14 PWR_KEY, 15 VCC_5V OUT, 16 VDC_OFF_N, 17 VCC_5V OUT, 18 RTC_BATT_IN, 19 VCC_5V OUT, 20 RECOVERY, 21 VCC_3V3 OUT, 22 RESET_IN_H, 23 VCC_3V3 OUT, 24 GND, 25 VCC_3V3 OUT, 26 ADC_IN0, 27 VCC_3V3 OUT, 28 ADC_IN2, 29 VCC_1V8 OUT, 30 ADC_IN3, 31 VCC_1V8 OUT, 32 GND, 33 VCC_3V3_SLP OUT, 34 GPIO1_A0, 35 GND, 36 GPIO1_A1, 37 GPIO0_A2, 38 GPIO1_A3, 39 GPIO2_A2, 40 GPIO1_A4, 41 GPIO2_A3, 42 GPIO1_C2, 43 GPIO2_A4, 44 GPIO1_C6, 45 GPIO2_A5, 46 GPIO1_C7, 47 GPIO2_A6, 48 GPIO1_D0, 49 IR_RX, 50 GPIO4_C5/SPDIF_TX, 51 GND, 52 UART2DBG_TX, 53 I2C1_SCL, 54 UART2DBG_RX, 55 I2C1_SDA, 56 SPI1_CSn0, 57 I2C2_SDA, 58 SPI1_TXD/UART4_TX, 59 I2C2_SCL, 60 SPI1_RXD/UART4_RX, 61 I2C7_SCL_HDMI, 62 SPI1_CLK, 63 I2C7_SDA_HDMI, 64 GND, 65 GND, 66 GPIO4_C1/I2C3_SCL, 67 I2S0_SCLK, 68 GPIO4_C0/I2C3_SDA, 69 I2S0_LRCK_RX, 70 I2C4_TPSCL, 71 I2S0_LRCK_TX, 72 I2C4_TPSDA, 73 I2S0_SDI0, 74 GND, 75 I2S0_SDI1SDO3, 76 HP_DET_H, 77 I2S0_SDI2SDO2, 78 GPIO4_D5_LCD_BL_EN, 79 I2S0_SDI3SDO1, 80 GPIO4_D6_LCD_RST_H, 81 I2S0_SDO0, 82 GPIO1_B5_TP_RST, 83 GND, 84 GPIO1_C4_TP_INT, 85 I2S_CLK(MCLK), 86 GND, 87 GND, 88 PWM0_BL, 89 I2S1_SCLK, 90 GPIO4_C6/PWM1, 91 I2S1_LRCK_RX, 92 GND, 93 I2S1_LRCK_TX, 94 VCC_3V0_SD OUT, 95 I2S1_SDI0, 96 GND, 97 I2S1_SDO0, 98 SDMMC0_D0, 99 MIPI_CSI0_RST, 100 SDMMC0_D1, 101 MIPI_CSI0_PWN, 102 SDMMC0_D2, 103 MIPI_CSI1_RST, 104 SDMMC0_D3, 105 MIPI_CSI1_PWN, 106 SDMMC0_CMD, 107 VCC_1V8_CAM OUT, 108 SDMMC0_DET_L, 109 GND, 110 GND, 111 CIF-CLKOUTA(CAMCLK), 112 SDMMC0_CLK, 113 DGND, 114 GND, 115 MIPI_RX0_D3N, 116 MIPI_TX1/RX1_D0N, 117 MIPI_RX0_D3P, 118 MIPI_TX1/RX1_D0P, 119 GND, 120 GND, 121 MIPI_RX0_D2N, 122 MIPI_TX1/RX1_D1N, 123 MIPI_RX0_D2P, 124 MIPI_TX1/RX1_D1P, 125 DGND, 126 GND, 127 MIPI_RX0_CLKN, 128 MIPI_TX1/RX1_CLKN, 129 MIPI_RX0_CLKP, 130 MIPI_TX1/RX1_CLKP, 131 GND, 132 GND, 133 MIPI_RX0_D1N, 134 MIPI_TX1/RX1_D2N, 135 MIPI_RX0_D1P, 136 MIPI_TX1/RX1_D2P, 137 GND, 138 GND, 139 MIPI_RX0_D0N, 140 MIPI_TX1/RX1_D3N, 141 MIPI_RX0_D0P, 142 MIPI_TX1/RX1_D3P, 143 GND, 144 GND
part B pins: 145 HDMI_CEC, 146 GND, 147 HDMI_HPD, 148 MIPI_TX0_D3N, 149 GND, 150 MIPI_TX0_D3P, 151 HDMI_TXCN, 152 GND, 153 HDMI_TXCP, 154 MIPI_TX0_D2N, 155 GND, 156 MIPI_TX0_D2P, 157 HDMI_TX0N, 158 GND, 159 HDMI_TX0P, 160 MIPI_TX0_CLKN, 161 GND, 162 MIPI_TX0_CLKP, 163 HDMI_TX1N, 164 GND, 165 HDMI_TX1P, 166 MIPI_TX0_D1N, 167 GND, 168 MIPI_TX0_D1P, 169 HDMI_TX2N, 170 GND, 171 HDMI_TX2P, 172 MIPI_TX0_D0N, 173 GND, 174 MIPI_TX0_D0P, 175 USB3.0/TYPE-C1_DP, 176 GND, 177 USB3.0/TYPE-C1_DM, 178 PCIE_RX3_N, 179 GND, 180 PCIE_RX3_P, 181 USB3.0/TYPEC1_TX1P, 182 GND, 183 USB3.0/TYPEC1_TX1M, 184 PCIE_TX3N, 185 GND, 186 PCIE_TX3P, 187 USB3.0/TYPEC1_RX1P, 188 GND, 189 USB3.0/TYPEC1_RX1M, 190 PCIE_RX2_N, 191 GND, 192 PCIE_RX2_P, 193 TYPEC1_TX2P, 194 GND, 195 TYPEC1_TX2M, 196 PCIE_TX2N, 197 GND, 198 PCIE_TX2P, 199 TYPEC1_RX2P, 200 GND, 201 TYPEC1_RX2M, 202 PCIE_RX1_N, 203 GND, 204 PCIE_RX1_P, 205 TYPEC1_SBU1, 206 GND, 207 TYPEC1_SBU2, 208 PCIE_TX1N, 209 GND, 210 PCIE_TX1P, 211 TYPEC1_SBU1_DC, 212 GND, 213 TYPEC1_SBU2_DC, 214 PCIE_RX0_N, 215 TYPEC1_U2VBUSDET, 216 PCIE_RX0_P, 217 GND, 218 GND, 219 HOST0_DP, 220 PCIE_TX0N, 221 HOST0_DM, 222 PCIE_TX0P, 223 GND, 224 GND, 225 HOST1_DP, 226 PCIE_REF_CLKN, 227 HOST1_DM, 228 PCIE_REF_CLKP, 229 GND, 230 GND, 231 EDP_TX3N, 232 LAN_BLINK, 233 EDP_TX3P, 234 LAN_LINK, 235 GND, 236 GND, 237 EDP_TX2N, 238 MDI3-, 239 EDP_TX2P, 240 MDI3+, 241 GND, 242 GND, 243 EDP_TX1N, 244 MDI2-, 245 EDP_TX1P, 246 MDI2+, 247 GND, 248 GND, 249 EDP_TX0N, 250 MDI1-, 251 EDP_TX0P, 252 MDI1+, 253 GND, 254 GND, 255 EDP_AUXP, 256 MDI0-, 257 EDP_AUXN, 258 MDI0+, 259 GND, 260 GND

## CON-HDMI_10029449-001RLF-RA-TH
designator J?, comment 10029449-001RLF
HDMI HDMI 1.4 Receptacle Connector 19 Position Surface Mount, Right Angle; Through Hole; Manufacturer: Amphenol ICC (FCI); Manufacturer Part Number: 10029449-001RLF; Case/Package: TH; Supplier-1: Digikey
footprint CON19_19.6_10029449-001RLF_TH_RA (HDMI Connector)
pins: 1 TMDS_D2+, 2 TMDS_SHIELD0, 3 TMDS_D2-, 4 TMDS_D1+, 5 TMDS_SHIELD1, 6 TMDS_D1-, 7 TMDS_D0+, 8 TMDS_SHIELD2, 9 TMDS_D0-, 10 TMDS_CLK+, 11 TMDS_SHIELD3, 12 TMDS_CLK-, 13 CEC, 14 NC, 15 SCL, 16 SDA, 17 DDC/CEC_GND, 18 +5V, 19 HOTPLUG, S1 GND, S2 GND, S3 GND, S4 GND

## CON-PLG-eDP_LVDSI-30R0.5TR-R-SMD
designator J?, comment LVDSI-30R0.5TR-R
eDP Connector Female 0.5mm Pitch 30Pin; Manufacturer: gtk: A Volex Company; Manufacturer Part Number: LVDSI-30R0.5TR-R; Case/Package: SMD; Supplier-1: Mouser
footprint CON30_19.6_LVDSI-30R0.5TR-R_TH_RA (EDP Connector)
pins: 1, 2, 3, 4, 5, 6, 7, 8, 9, 10, 11, 12, 13, 14, 15, 16, 17, 18, 19, 20, 21, 22, 23, 24, 25, 26, 27, 28, 29, 30, S1, S2, S3, S4

## CON-PLG-FPC_30X1-19-RA-BC-SMD
designator J?, comment 20455-030E-12
FFC & FPC Connectors 0.5 FPC EASYON BTM CONT RA 30CKT ZIF; Manufacturer: WE; Manufacturer Part Number: 68713014522; Case/Package: SMD; Supplier-1: Mouser
footprint CON30_19_68713014522 _SMD_RA (30 PIN FPC Connector)
pins: 1, 2, 3, 4, 5, 6, 7, 8, 9, 10, 11, 12, 13, 14, 15, 16, 17, 18, 19, 20, 21, 22, 23, 24, 25, 26, 27, 28, 29, 30, S1, S2

## CON-PLG_2X1-50-ST-TH
designator J?, comment 10114828-10102LF
Connector Header Surface Mount 2 position 0.049" (1.25mm); Manufacturer: Amphenol ICC (FCI); Manufacturer Part Number: 10114828-10102LF; Case/Package: SMD; Supplier-1: Digikey
footprint CON2_10114828-10102LF_SMD (Connector)
pins: 1, 2, PAD, PAD
text: GND

## CON-PLG_3X1-50-RA-TH_1
designator J?, comment BM03B-GHS-TBT(LF)(SN)
Connector Header Surface Mount 3 position 0.049" (1.25mm); Manufacturer: JST Sales America Inc.; Mating Part Number: GHR-03V-S; Crimp Part Number: SSHL-002T-P0.2; Alternate Part Number-1: NA; Manufacturer Part Number: BM03B-GHS-TBT(LF)(SN); Case/Package: TH-CON; Supplier-1: Digikey; Supplier Part Number-1: BM03B-GHS-TBT(LF)(SN); Category: Connector; Number of Pins: 3
footprint CON3_50_BM03B-GHS-TBT(LF)(SN)_TH_RA (Footprint not found)
pins: 1, 2, 3, 4, 5

## CON-PLG_3X1-228-DC_JACK
designator J?, comment DC -JACK
3 Pins, 1 Row 228mil Pitch, right angle Connector, male; Manufacturer: JST; Manufacturer Part Number: PJ-002A; Case/Package: TH-CON; Supplier-1: SP ROAD
footprint CON3_129_PJ-002A_TH_RA (DC JACK)
pins: 1, 2, 3 -
text: +; DC JACK

## CON-PLG_3X1-ECT818000071-ST-SMD
designator J?, comment ECT818000071
SMD RF Connectors/Coaxial Connectors RoHS; Manufacturer: ECT; Manufacturer Part Number: ECT818000071; Case/Package: SMD; Supplier-1: LCSC
footprint CON3_UFL_116_SMD_ST (Footprint not found)
pins: 1 GND, 2 SIG, 3 GND

## CON-PLG_4X1-50-ST-TH
designator J?, comment 653004114822
4 Pins, 1 Row 1.25mm Pitch, straight Connector, male; Manufacturer: JST; Manufacturer Part Number: 653004114822; Case/Package: TH-CON; Supplier-1: WURTH
footprint CON4_50_653004114822_TH_ST (Footprint not found)
pins: 1, 2, 3, 4

## CON-PLG_SJ2-25504D-SMT-TR-RA-TH
designator J?, comment SJ2-25504D-SMT-TR
2.5 mm, Stereo, Right Angle, Surface Mount (SMT), 4 Conductors, 2 Internal Switches, Audio Jack Connector; Manufacturer: CUI Devices; Manufacturer Part Number: SJ2-25504D-SMT-TR; Case/Package: SMD; Supplier-1: Digikey
footprint CON11_SJ2-25504D-SMT-TR_TH_RA (Audio Jack)
pins: 1 SLEEVE, 2 TIP, 3 RING1, 4 RING2, 10 TIP_SWITCH, 11 RING1_SWITCH

## CON-SKT-RJ_8C8P-RA-TH
designator J?, comment RJ45 LAN
8 Pins, 2 Row 2.54mm Pitch, right angle Connector, male; Manufacturer: Assmann; Manufacturer Part Number: A-2004-2-4-LPS-N-R; Case/Package: TH-CON; Supplier-1: SP ROAD
footprint CON10_P106_RJ45_TH_ST (Footprint not found)
pins: 1 D1+, 2 D1-, 3 D2+, 4 D2-, 5 D3+, 6 D3-, 7 D4+, 8 D4-, 9 EARTH, 10 EARTH

## CON-SKT-USB_87520-0010BLF-RA-TH
designator J?, comment 87520-0010BLF
USB-A (USB TYPE-A) USB 2.0 Receptacle Connector 4 Position Through Hole, Right Angle; Manufacturer: Amphenol ICC (FCI); Manufacturer Part Number: 87520-0010BLF; Case/Package: TH; Supplier-1: Digikey
footprint CON4_98_87520-0010BLF_RA_TH (USB FEMALE)
pins: 1 VCC (power), 2 D- (io), 3 D+ (io), 4 GND (power), P1 SHIELD, P2 SHIELD

## CON-TYPEC_6X1-100-RA-TH
designator J?, comment UJC-HP-3-SMT-TR
USB Connectors USB jack, C type, power only, 6 pin, horizonal, gold flash plating, surface mount, T&R; Manufacturer: CUI Devices; Manufacturer Part Number: UJC-HP-3-SMT-TR; Case/Package: TH; Supplier-1: Mouser
footprint CON6_48.4_UJC-HP-3-SMT-TR (Type-C Connector)
pins: A5 CC1, A9 VBUS_2, A12 GND2, B5 CC2, B9 VBUS_1, B12 GND1, E1 GND_E1, E2 GND_E2, E3 GND_E3, E4 GND_E4

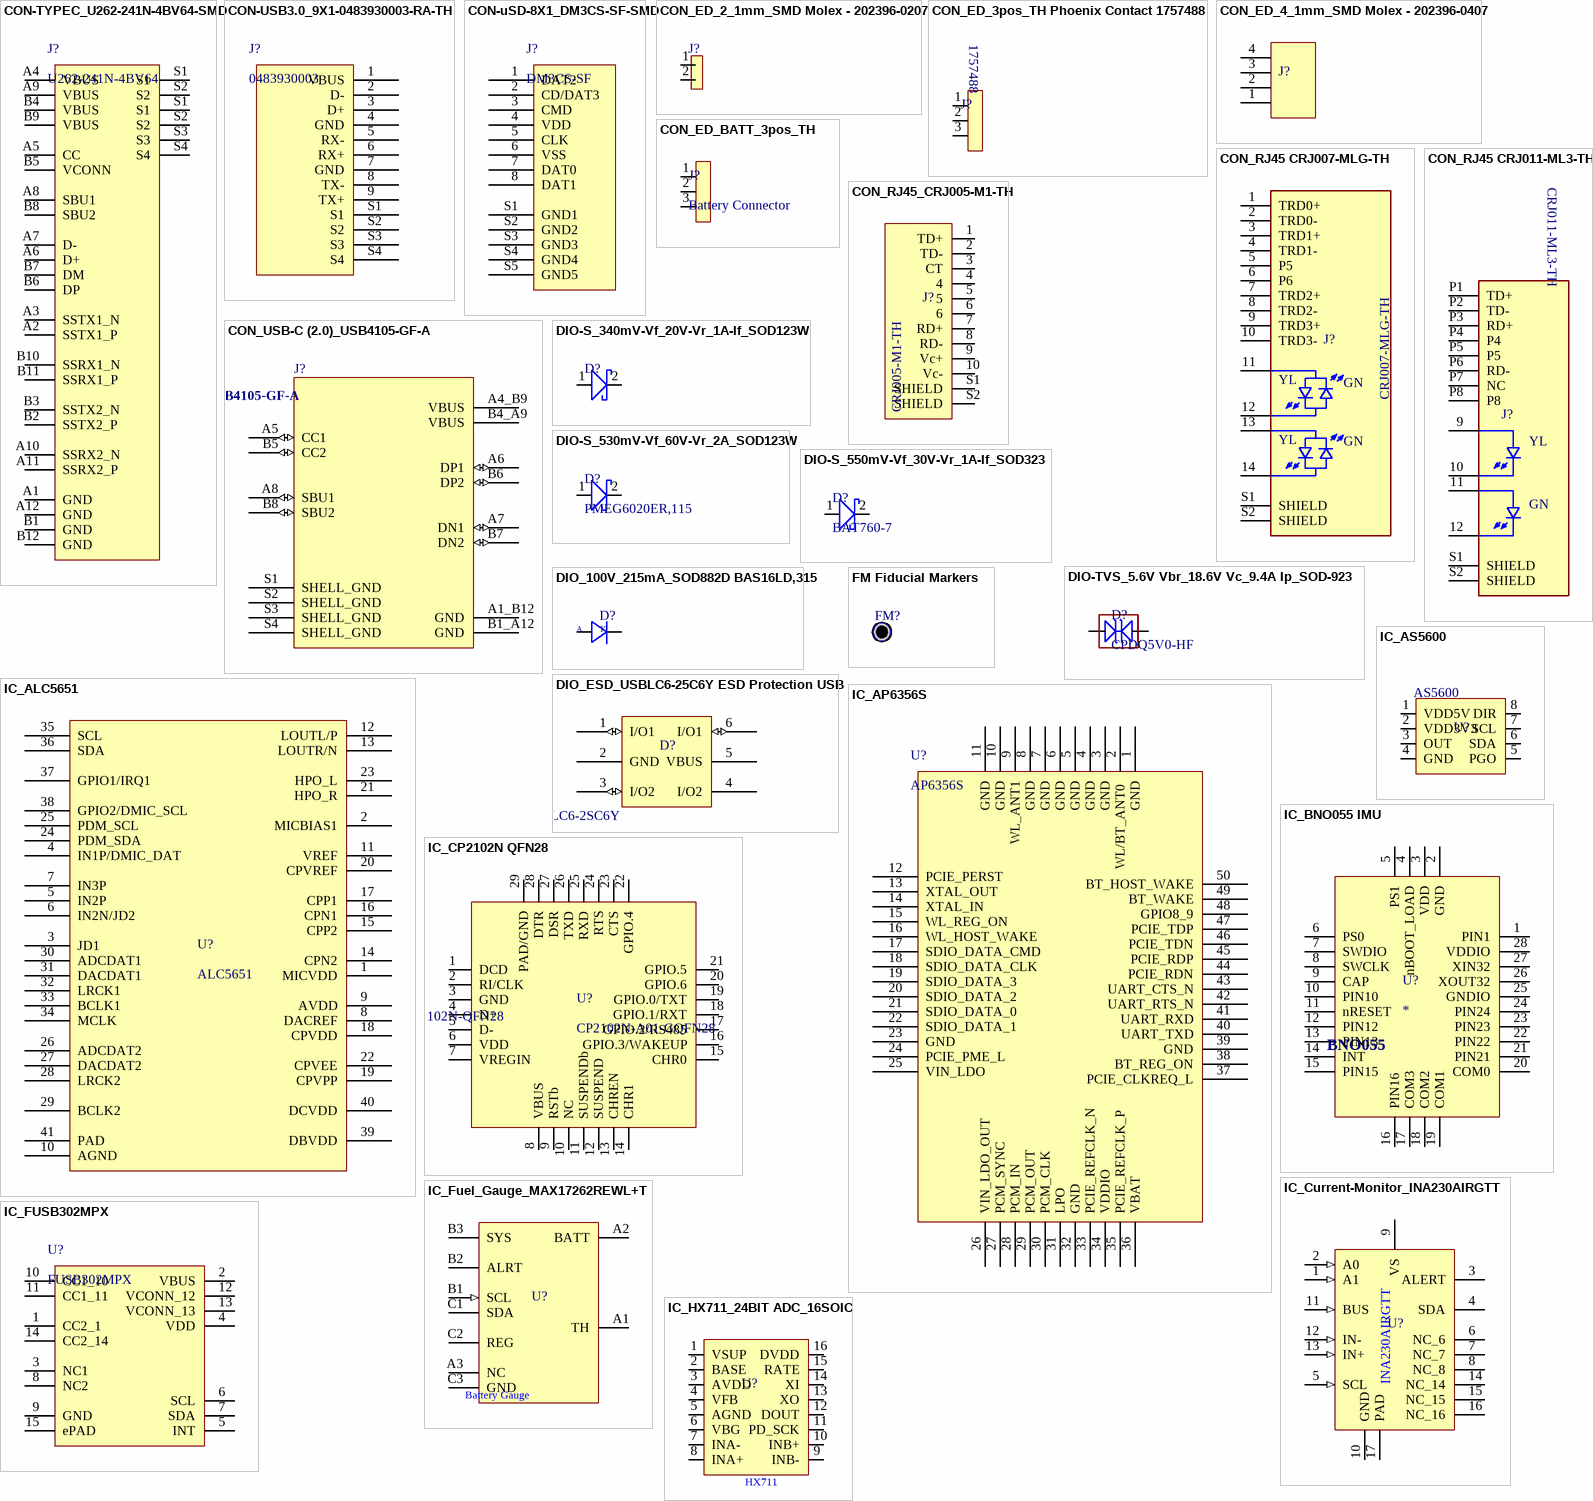
[diagram p3: symbols CON-TYPEC_U262-241N-4BV64-SMD to IC_HX711_24BIT ADC_16SOIC]

## CON-TYPEC_U262-241N-4BV64-SMD
designator J?, comment U262-241N-4BV64
USB - Type C Female 24 SMD USB Connectors RoHS; Manufacturer: XKB Connectivity; Manufacturer Part Number: U262-241N-4BV64; Case/Package: SMD; Supplier-1: LCSC
footprint CON24_19.64_U262-241N-4BV64_TH_RA (Type C Connector)
pins: A1 GND, A2 SSTX1_P, A3 SSTX1_N, A4 VBUS, A5 CC, A6 D+, A7 D-, A8 SBU1, A9 VBUS, A10 SSRX2_N, A11 SSRX2_P, A12 GND, B1 GND, B2 SSTX2_P, B3 SSTX2_N, B4 VBUS, B5 VCONN, B6 DP, B7 DM, B8 SBU2, B9 VBUS, B10 SSRX1_N, B11 SSRX1_P, B12 GND, S1, S1, S2, S2, S3, S4

## CON-USB3.0_9X1-0483930003-RA-TH
designator J?, comment 0483930003
USB-A (USB TYPE-A) USB 3.2 Gen 1 (USB 3.1 Gen 1, Superspeed (USB 3.0)) Receptacle Connector 9 Position Through Hole, Right Angle; Manufacturer: Molex; Manufacturer Part Number: 0483930003; Case/Package: TH; Supplier-1: Digikey
footprint CON9_78_0483930003_TH_RA
pins: 1 VBUS, 2 D-, 3 D+, 4 GND, 5 RX-, 6 RX+, 7 GND, 8 TX-, 9 TX+, S1, S2, S3, S4

## CON-uSD-8X1_DM3CS-SF-SMD
designator J?, comment DM3CS-SF
Memory Card Connectors 8P R/A SMT MICRO SD HINGE PUSH-PULL; Manufacturer: Hirose Electric Co Ltd; Manufacturer Part Number: DM3CS-SF; Case/Package: SMD; Supplier-1: Digikey
footprint CON8_43_DM3CS-SF_SMD (uSD Card)
pins: 1 DAT2, 2 CD/DAT3, 3 CMD, 4 VDD, 5 CLK, 6 VSS, 7 DAT0, 8 DAT1, S1 GND1, S2 GND2, S3 GND3, S4 GND4, S5 GND5